# Altium schematic symbol library PSMN4R0-40YS.SchLib: 1 symbol
Pins are listed as number, name and electrical type; pins without a type are passive.

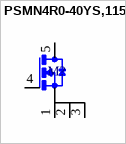
[diagram p0: symbol PSMN4R0-40YS,115]

## PSMN4R0-40YS,115
designator M?  (value not drawn)
PSMN4R0-40YS - N-channel LFPAK 40 V 4.2 mΩ standard level MOSFET; Manufacturer: Nexperia; Supplier 1: Digi-Key; Manufacturer Part Number: PSMN4R0-40YS,115; RoHS: No; Stock 1: 91008; ComponentLink1URL: http://www.farnell.com/datasheets/2242044.pdf?src-supplier=Newark; ComponentLink1Description: http://www.farnell.com/datasheets/2242044.pdf?src-supplier=Newark; Supplier Part Number 1: 1727-4273-1-ND
footprint PSMN4R0-40YS,115 (Power MOSFET)
pins: 1 S, 2 S, 3 S, 4 G, 5 D